# Altium schematic symbol library Schlib1.SchLib: 18 symbols
Pins are listed as number, name and electrical type; pins without a type are passive.

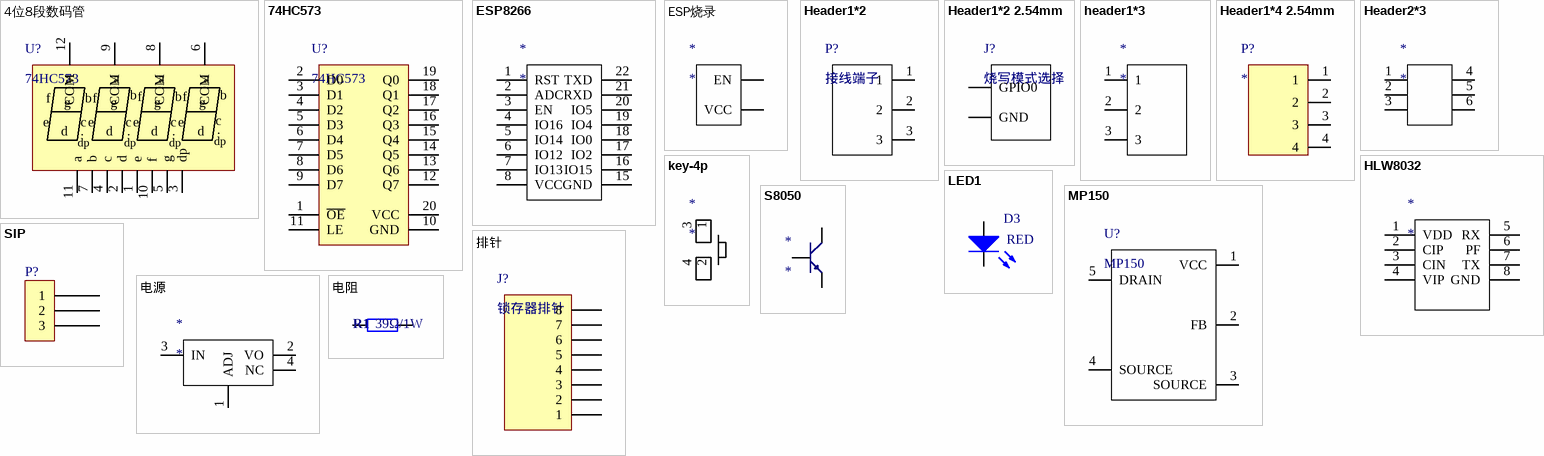
[diagram p0: symbols 4位8段数码管 to 电阻]

## 4位8段数码管
designator U?, comment 74HC573
pins: 1 e, 2 d, 3 dp, 4 c, 5 g, 6 COM, 7 b, 8 COM, 9 COM, 10 f, 11 a, 12 COM
text: .

## 74HC573
designator U?
pins: 1 ~{OE}, 2 D0, 3 D1, 4 D2, 5 D3, 6 D4, 7 D5, 8 D6, 9 D7, 10 GND, 11 LE, 12 Q7, 13 Q6, 14 Q5, 15 Q4, 16 Q3, 17 Q2, 18 Q1, 19 Q0, 20 VCC

## ESP8266
designator *
pins: 1 RST, 2 ADC, 3 EN, 4 IO16, 5 IO14, 6 IO12, 7 IO13, 8 VCC, 15 GND, 16 IO15, 17 IO2, 18 IO0, 19 IO4, 20 IO5, 21 RXD, 22 TXD

## ESP烧录
designator *
pins: 1 VCC, 2 EN

## Header1*2
designator P?, comment 接线端子
pins: 1, 2, 3

## Header1*2 2.54mm
designator J?, comment 烧写模式选择
pins: 1 GPIO0, 2 GND

## header1*3
designator *
pins: 1, 2, 3

## Header1*4 2.54mm
designator P?
pins: 1, 2, 3, 4

## Header2*3
designator *
pins: 1 TXD, 2 RXD, 3 GND, 4 RXD, 5 TXD, 6 GND

## HLW8032
designator *
pins: 1 VDD, 2 CIP, 3 CIN, 4 VIP, 5 RX, 6 PF, 7 TX, 8 GND

## key-4p
designator *
pins: 1, 2, 3, 4

## LED1
designator D3, comment RED
LED; 名称: LED灯; 封装: 0603; 规格: RED
footprint 0603
pins: 1 A, 2 K

## MP150
designator U?
pins: 1 VCC, 2 FB, 3 SOURCE, 4 SOURCE, 5 DRAIN

## S8050
designator *
pins: 1 B, 2 E, 3 C

## SIP
designator P?, comment 排针 2.54MM  (value not drawn)
footprint HEADER1*3
pins: 1, 2, 3

## 排针
designator J?, comment 锁存器排针
SIP8
pins: 1, 2, 3, 4, 5, 6, 7, 8

## 电源
designator *
pins: 1 ADJ, 2 VO, 3 IN, 4 NC

## 电阻
designator R1, comment 39Ω/1W
贴片电阻; 型号: 1KΩ; 名称: 电阻
footprint R-1W-THT
pins: 1, 2